# Altium schematic symbol library mainpcb.SchLib: 14 symbols
Pins are listed as number, name and electrical type; pins without a type are passive.

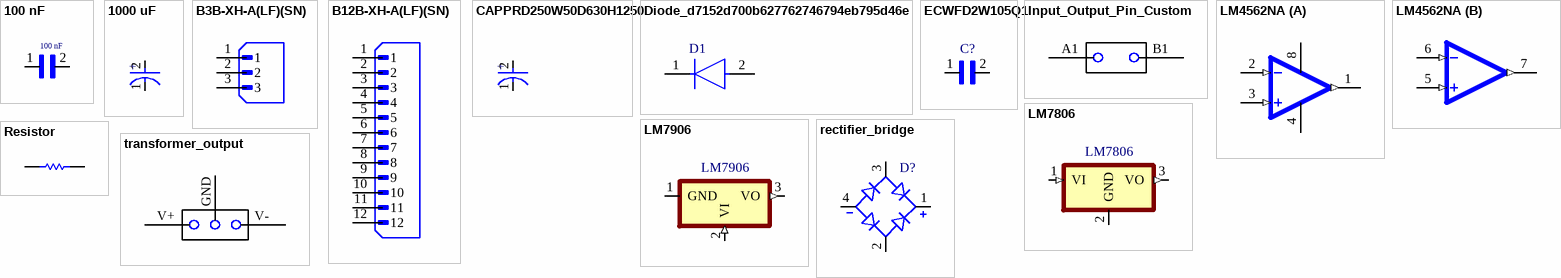
[diagram p0: symbols 100 nF to transformer_output]

## 100 nF
designator 100 nF  (value not drawn)
footprint 100 nF
pins: 1, 2

## 1000 uF
designator *  (value not drawn)
footprint 1000 uF
pins: 1 C, 2 A
text: +

## B3B-XH-A(LF)(SN)
designator J?  (value not drawn)
Connector Header Through Hole 3 position 0.098 (2.50mm); MF: JST Sales; MP: B3B-XH-A(LF)(SN); SnapEDA_Link: https://www.snapeda.com/parts/B3B-XH-A(LF)(SN)/JST/view-part/?ref=snap; Package: None; Value: *; Check_prices: https://www.snapeda.com/parts/B3B-XH-A(LF)(SN)/JST/view-part/?ref=eda
footprint JST_B3B-XH-A(LF)(SN)
pins: 1, 2, 3

## B12B-XH-A(LF)(SN)
designator J?  (value not drawn)
Connector Header Through Hole 12 position 0.098 (2.50mm); MF: JST Sales; MP: B12B-XH-A(LF)(SN); SnapEDA_Link: https://www.snapeda.com/parts/B12B-XH-A(LF)(SN)/JST+Sales+America+Inc./view-part/?ref=snap; Package: None; Value: *; Check_prices: https://www.snapeda.com/parts/B12B-XH-A(LF)(SN)/JST+Sales+America+Inc./view-part/?ref=eda
footprint JST_B12B-XH-A(LF)(SN)
pins: 1, 2, 3, 4, 5, 6, 7, 8, 9, 10, 11, 12

## CAPPRD250W50D630H1250
designator *  (value not drawn)
Capacitor Electrolyte
footprint CAPPRD250W50D630H1250
pins: 1 C, 2 A
text: +

## Diode_d7152d700b627762746794eb795d46e
designator D1, comment 1N4148  (value not drawn)
DIODE GEN PURP 100V 200MA DO35; Forward Voltage: 1V; Max Power Dissipation: 500mW; Max Reverse Current: 5uA; Forward Current: 300mA; Current: 4A; Reverse Recovery Time: 4ns; Element Configuration: Single; Outside Diameter: 1.85mm; Capacitance: 4pF; Polarity: Standard; Max Forward Surge Current (Ifsm): 1A; Reverse Voltage: 100V; Output Current: 200mA; Average Rectified Current: 200mA; Diameter: 1.91mm; Max Repetitive Reverse Voltage (Vrrm): 100V; Current Rating: 200mA; Case/Package: DO-35; Lead Free: Lead Free; Number of Pins: 2; Recovery Time: 4ns; Packaging: Bulk; Contact Plating: Tin; Voltage: 100V; Mount: Through Hole; Max Surge Current: 4A; Package Quantity: 2000; Width: 1.91mm; Max Reverse Voltage (DC): 100V; Length: 4.56mm; Radiation Hardening: No; Power Dissipation: 500mW; Voltage Rating (DC): 100V; Peak Non-Repetitive Surge Current: 4A; REACH SVHC: No SVHC; Height: 4.56mm; Max Operating Temperature: 175°C; Series: -; Weight: 0.01lb; Min Operating Temperature: -65°C
footprint FP-017AG-MFG
pins: 1 C, 2 A

## ECWFD2W105Q1
designator C?  (value not drawn)
Capacitor film; MP: ECWFD2W105Q1; Price: None; Availability: Unavailable; Package: None; Value: *
footprint CAPRR1000W60L1260T920H1390
pins: 1, 2

## Input_Output_Pin_Custom
designator P  (value not drawn)
footprint Input_Output_Pin_Custom
pins: A1, B1

## LM4562NA
designator U?  (value not drawn)
LM4562 2 - Dual Channels per IC Audio Amplifier Evaluation Board; MF: Texas Instruments; MP: LM4562NA; SnapEDA_Link: https://www.snapeda.com/parts/LM4562NA/Texas+Instruments/view-part/?ref=snap; Package: DIP-8 Texas Instruments; Value: *; Check_prices: https://www.snapeda.com/parts/LM4562NA/Texas+Instruments/view-part/?ref=eda
footprint DIP794W45P254L959H508Q8
part A pins: 1 OUTA (out), 2 INA- (in), 3 INA+ (in), 4 V- (power), 8 V+ (power)
part B pins: 5 INB+ (in), 6 INB- (in), 7 OUTB (out)

## LM7806
designator LM7806  (value not drawn)
footprint LM7806
pins: 1 VI (in), 2 GND, 3 VO (out)

## LM7906
designator LM7906  (value not drawn)
footprint LM7906
pins: 1 GND, 2 VI (in), 3 VO (out)

## rectifier_bridge
designator D?  (value not drawn)
footprint rectifier_bridge
pins: 1 POS, 2 AC1, 3 AC2, 4 NEG

## Resistor
designator R3, comment k  (value not drawn)
Axial Resistor, 10 KOhm, +/- 1%, 0.25 W, -55 to 155 degC, 2-Pin THD, RoHS, Bulk; Manufacturer: Yageo; Temperature Coefficient: 100ppm\/degreesC; Voltage Rating: 250V; Voltage Rating (DC): 200V; Resistance: 10KOhm; Max Power Dissipation: 250mW; Datasheet URL: http://www.yageo.com/documents/recent/Yageo%20LR_MFR_2013.pdf; Packaging: Bulk; RoHSCompliant: True; Mount: ThroughHole; Package Reference: MFR-25; Termination: Axial; Composition: MetalFilm; Number of Terminations: 2; Package Quantity: 200; Mounting Technology: ThroughHole; Length: 0.248inch; Max Operating Temperature: 155degC; Min Operating Temperature: -55degC; Datasheet Version: 04/2013; Lead Free: LeadFree; Manufacturer URL: http://www.yageo.com/; Tolerance: 1%; Power Rating: 250mW; Package Description: 2-Pin Axial Lead, Dia 2.4 mm, Body Length 6.3 mm; Military Standard: Not; Case\/Package: Axial
footprint RESA60-630X240 (Axial Resistor, 2-Leads, Dia 2.4mm, Body Length 6.3mm)
pins: 1, 2

## transformer_output
designator *  (value not drawn)
footprint transformer_output
pins: GND, V+, V-